# Altium schematic symbol library 54R9.Schlib: 1 symbol
Pins are listed as number, name and electrical type; pins without a type are passive.

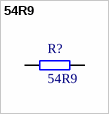
[diagram p0: symbol 54R9]

## 54R9
designator R?
R; 54R9; 62.5mW; 0.1%; 50V; Thin Film; ±25ppm/K; 1x;; Value: 54R9; ComponentLink1Description: Datasheet; ComponentLink1URL: https://bg.farnell.com/panasonic/era6aeb49r9v/res-0805-49r9-0-125w-metal-film/dp/1810372
footprint RESC1608X06N(SMR0603) (Chip Resistor, 2-Leads, Body 1,60x0,80mm, IPC Medium Density)
pins: 1, 2